# Altium footprint library Trans_Infineon_IRF9540NPBF_eec_0.PcbLib: 1 footprints
Each footprint in its own frame and in the unit in brackets; x right, y up, seen from the top. Pads: shape width x height; smd on the part's side, far side on the other; paste and mask are expansions set on the pad; w line width, h text height; cw(c..) or ccw(c..) is an arc to the next point about the centre after c.
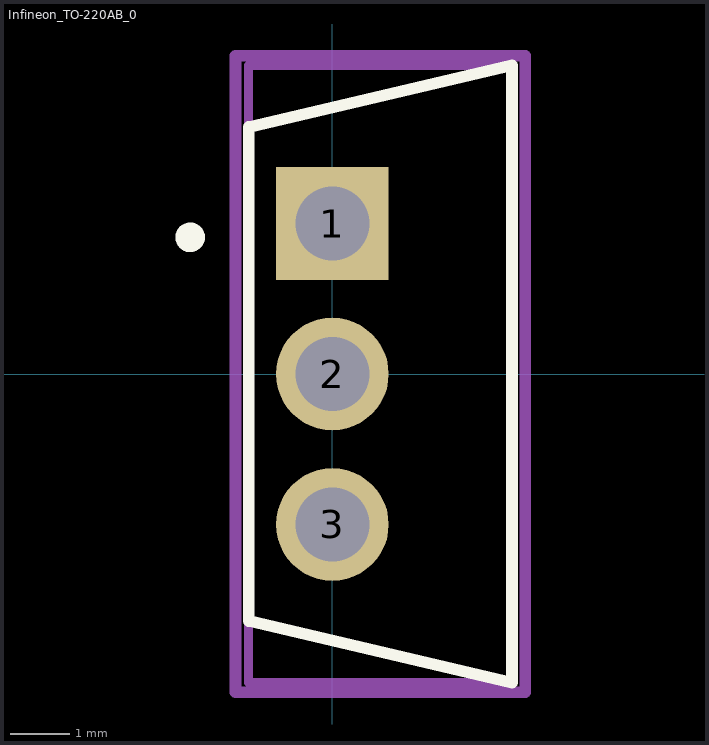
[diagram p0: the footprint, top view; thin cyan lines are the x and y axes]

## Infineon_TO-220AB_0 [mm]
pads (3):
  rect 1.9x1.9 hole 1.25 paste-1000 mask+0: 1(0,2.54)
  round 1.9 hole 1.25 paste-1000 mask+0: 2(0,0) 3(0,-2.54)
Top Overlay:
  circle w0.25: c-2.4,2.308 r0.125
  lines w0.2: 3.033,-5.208 -1.412,-4.166 -1.412,4.166 3.033,5.208 ; 3.033,-5.158 3.033,5.158
Mechanical 10:
  lines w0.2: -1.635,-5.37 3.255,-5.37 3.255,5.37 -1.635,5.37 -1.635,-5.37
  text ".Designator" at 0.81,0 h1
Mechanical 12:
  lines w0.15: -1.412,-5.208 3.033,-5.208 3.033,5.208 -1.412,5.208 -1.412,-5.208
Mechanical 15:
  lines w0.1: -0.5,0 0.5,0 -0.5,0 ; 0,-0.5 0,0.5 0,-0.5
  lines w0.2: -1.635,-5.37 3.255,-5.37 3.255,5.37 -1.635,5.37 -1.635,-5.37
3D body "3dmodel.step": height 0.25, standoff 0, extent -1.635,-5.37 3.255,5.37